# EAGLE library part LTC3867 (library PowerProducts)
Synchronous Step-Down DC/DC Controller with Differential Remote Sense and Nonlinear Control
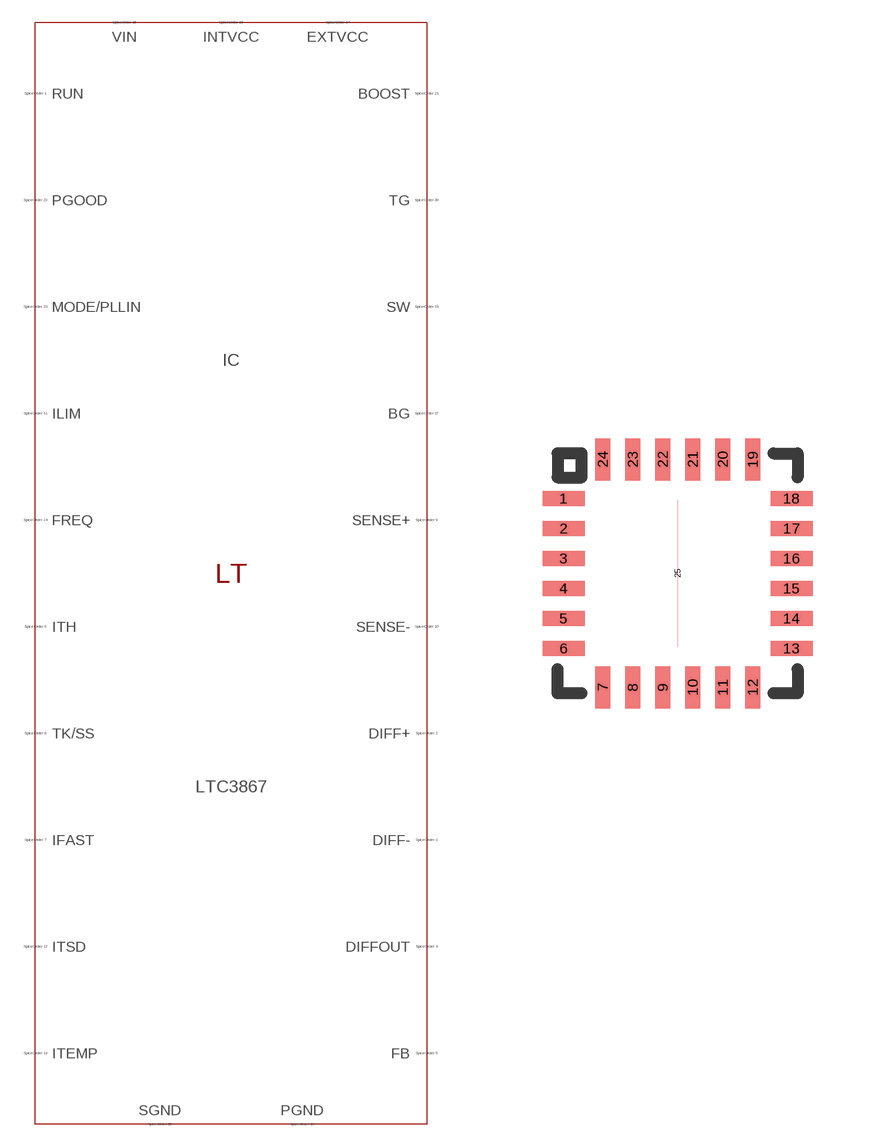
[diagram p383: symbol with the pads of QFN24(UF); footprint QFN24(UF)]

Designator prefix IC

## LTC3867 (SPICEMODEL: LTC3867.sub; SPICEPREFIX: X; VALUE2: LTC3867)  [QFN24(UF)]
1  RUN  pas
2  DIFF+  pas
3  DIFF-  pas
4  DIFFOUT  pas
5  FB  pas
6  ITH  pas
7  IFAST  pas
8  TK/SS  pas
9  SENSE+  pas
10  SENSE-  pas
11  ILIM  pas
12  ITSD  pas
13  ITEMP  pas
14  EXTVCC  pas
15  VIN  pas
16  INTVCC  pas
17  BG  pas
18  PGND  pas
19  SW  pas
20  TG  pas
21  BOOST  pas
22  PGOOD  pas
23  MODE/PLLIN  pas
24  FREQ  pas
25  SGND  pas

## Footprint QFN24(UF) (pad centres in mm)
Package generated from: QFN24(UF).asc (!PADS-POWERPCB-V5.0-BASIC! DESIGN DATABASE ASCII FILE 1.0) with :import-pads-powerpcb-v5.ulp Version 1.0.1 at 04.10.2012 14:11:24
smd 1.05 x 0.375: 1 -2.85,1.875; 2 -2.85,1.125; 3 -2.85,0.375; 4 -2.85,-0.375; 5 -2.85,-1.125; 6 -2.85,-1.875; 13 2.85,-1.875; 14 2.85,-1.125; 15 2.85,-0.375; 16 2.85,0.375; 17 2.85,1.125; 18 2.85,1.875
smd 0.375 x 1.05: 7 -1.875,-2.85; 8 -1.125,-2.85; 9 -0.375,-2.85; 10 0.375,-2.85; 11 1.125,-2.85; 12 1.875,-2.85; 19 1.875,2.85; 20 1.125,2.85; 21 0.375,2.85; 22 -0.375,2.85; 23 -1.125,2.85; 24 -1.875,2.85
smd 0 x 3.675: 25 0,0